# EAGLE library part LIS3DHTR (library Sensor)
ACCEL 2-16G I2C/SPI 16LGA Manufacturer's datasheet <https://www.st.com/content/ccc/resource/technical/document/datasheet/3c/ae/50/85/d6/b1/46/fe/CD00274221.pdf/files/CD00274221.pdf/jcr:content/translations/en.CD00274221.pdf>
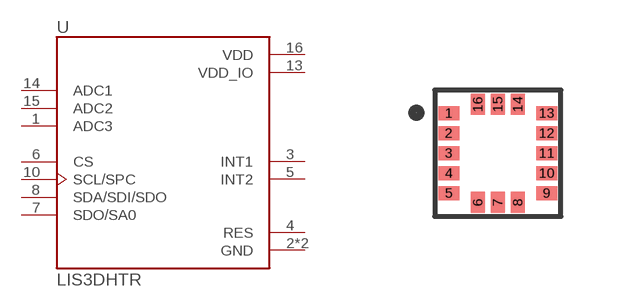
[diagram p18: symbol with the pads of LGA-16; footprint LGA-16]

Designator prefix U

## LIS3DHTR (CREATED_BY: PCBLayout.com; DIGIKEY_PN: 497-10613-2-ND; MANUFACTURER: STMicroelectronics; MPN: LIS3DHTR; PACKAGE: LGA-16)  [LGA-16]
1  ADC3  in
2  GND  pwr
3  INT1  out
4  RES  pas
5  INT2  out
6  CS  in
7  SDO/SA0
8  SDA/SDI/SDO
9  GND  pwr
10  SCL/SPC  in
13  VDD_IO  pwr
14  ADC1  in
15  ADC2  in
16  VDD  pwr

## Footprint LGA-16 (pad centres in mm)
smd 0.52 x 0.35: 1 -1.225,1; 2 -1.225,0.5; 3 -1.225,0; 4 -1.225,-0.5; 5 -1.225,-1; 9 1.225,-1; 10 1.225,-0.5; 11 1.225,0; 12 1.225,0.5; 13 1.225,1
smd 0.35 x 0.52: 6 -0.5,-1.225; 7 0,-1.225; 8 0.5,-1.225; 14 0.5,1.225; 15 0,1.225; 16 -0.5,1.225